# EAGLE library part XR-T6166 (library exar)
Codirectional digital PROCESSOR
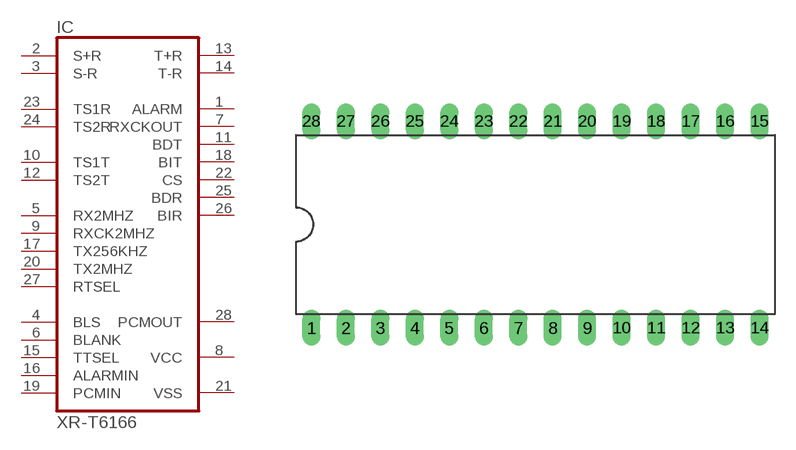
[diagram p51: symbol with the pads of DIL28-6; footprint DIL28-6]

Designator prefix IC

## XR-T6166 (OC_FARNELL: unknown; OC_NEWARK: unknown)  [DIL28-6]
1  ALARM  out
2  S+R  in
3  S-R  in
4  BLS  in
5  RX2MHZ  in
6  BLANK  in
7  RXCKOUT  out
8  VCC  pwr
9  RXCK2MHZ  in
10  TS1T  in
11  BDT  out
12  TS2T  in
13  T+R  out
14  T-R  out
15  TTSEL  in
16  ALARMIN  in
17  TX256KHZ  in
18  BIT  out
19  PCMIN  in
20  TX2MHZ  in
21  VSS  pwr
22  CS  out
23  TS1R  in
24  TS2R  in
25  BDR  out
26  BIR  out
27  RTSEL  in
28  PCMOUT  out

## Footprint DIL28-6 (pad centres in mm)
Dual In Line Package 0.6 inch
drill 0.813 long: 1 -16.51,-7.62; 2 -13.97,-7.62; 3 -11.43,-7.62; 4 -8.89,-7.62; 5 -6.35,-7.62; 6 -3.81,-7.62; 7 -1.27,-7.62; 8 1.27,-7.62; 9 3.81,-7.62; 10 6.35,-7.62; 11 8.89,-7.62; 12 11.43,-7.62; 13 13.97,-7.62; 14 16.51,-7.62; 15 16.51,7.62; 16 13.97,7.62; 17 11.43,7.62; 18 8.89,7.62; 19 6.35,7.62; 20 3.81,7.62; 21 1.27,7.62; 22 -1.27,7.62; 23 -3.81,7.62; 24 -6.35,7.62; 25 -8.89,7.62; 26 -11.43,7.62; 27 -13.97,7.62; 28 -16.51,7.62